# Altium schematic symbol library 2020-01-08_00-59-00.SchLib: 2 symbols
Pins are listed as number, name and electrical type; pins without a type are passive.

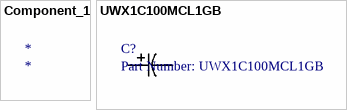
[diagram p0: symbols Component_1 to UWX1C100MCL1GB]

## Component_1
designator *

## UWX1C100MCL1GB
designator C?, comment Part Number: UWX1C100MCL1GB
No Description Available; Vendor: Nichicon; Built_By: EMA_UL_Team; Type: DEV; Manufacturer_Part_Number: UWX1C100MCL1GB; Copyright: Copyright (C) 2018 Accelerated Designs. All rights reserved; RefDes: RefDes; Value: Value
footprint PCAP_4x5.4-ELECT
pins: 1, 2